# EAGLE library part RJ45LED (library personal)
AMP RJHSE-5381 RJ45 with leds but no magnetics
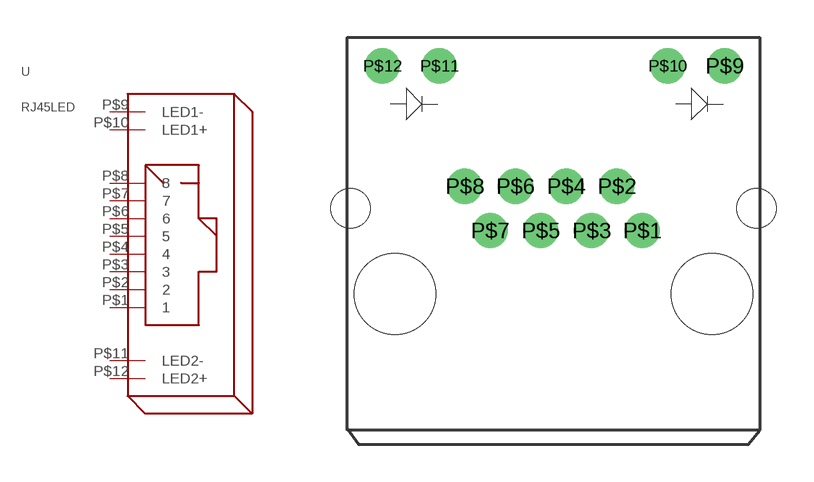
[diagram p4: symbol with the pads of RJ45LED; footprint RJ45LED]

Designator prefix -

## RJ45LED  [RJ45LED]
P$1  1
P$2  2
P$3  3
P$4  4
P$5  5
P$6  6
P$7  7
P$8  8
P$9  LED1-
P$10  LED1+
P$11  LED2-
P$12  LED2+

## Footprint RJ45LED (pad centres in mm)
drill 0.9 round: P$1 11.684,2.54; P$2 10.668,4.318; P$3 9.652,2.54; P$4 8.636,4.318; P$5 7.62,2.54; P$6 6.604,4.318; P$7 5.588,2.54; P$8 4.572,4.318; P$9 14.986,9.144; P$10 12.7,9.144; P$11 3.556,9.144; P$12 1.27,9.144
hole 1.575 at 0,3.429
hole 1.575 at 16.256,3.429
hole 3.251 at 1.778,0
hole 3.251 at 14.478,0